# Altium footprint library R_1206.PCBLIB: 1 footprints
Each footprint in its own frame and in the unit in brackets; x right, y up, seen from the top. Pads: shape width x height; smd on the part's side, far side on the other; paste and mask are expansions set on the pad; w line width, h text height; cw(c..) or ccw(c..) is an arc to the next point about the centre after c.
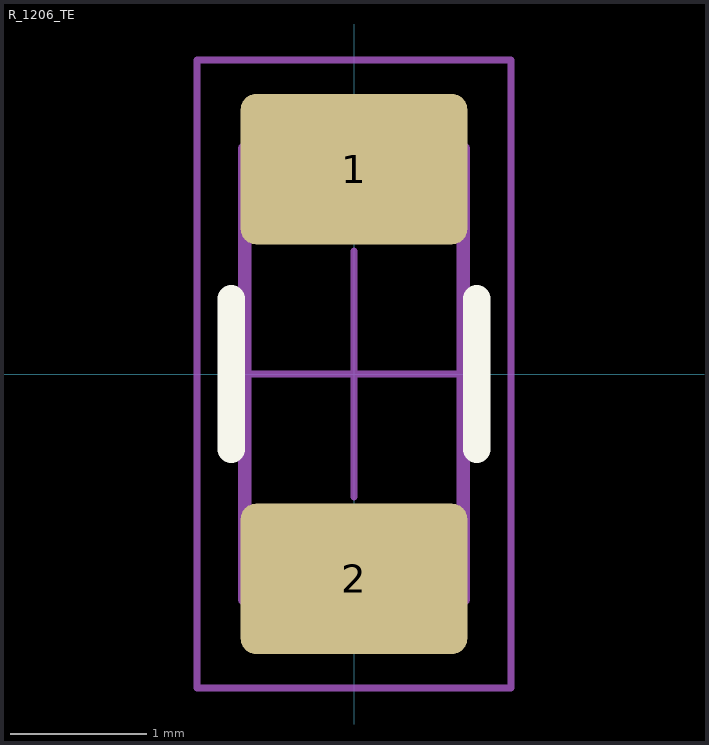
[diagram p0: the footprint, top view; thin cyan lines are the x and y axes]

## R_1206_TE [mm] "Vishay D1206 3.2 x 1.6 (+/- 0.15), 0.2mm - 0.6mm Kontakte"
height 0.65
pads (2):
  rrect20% 1.66x1.1 smd: 1(0,1.5) 2(0,-1.5)
Top Overlay:
  lines w0.2: -0.9,-0.55 -0.9,0.55 ; 0.9,-0.55 0.9,0.55
Top Assembly:
  lines w0.1: -0.8,-1.1 0.8,-1.1 ; -0.8,1.1 0.8,1.1 ; -0.8,-1.65 0.8,-1.65 0.8,1.65 -0.8,1.65 -0.8,-1.65
Top Courtyard:
  lines w0.05: -1.15,-2.3 -1.15,0 -1.15,2.3 1.15,2.3 1.15,-2.3 -1.15,-2.3
Top Designator:
  text ".Designator" at 0.3,1.95 h0.7
Top Component Center:
  lines w0.05: -0.9,0 0,0 ; 0,-0.9 0,0 ; 0,0.9 0,0 ; 0.9,0 0,0
3D body "RESC3216X60L45.STEP": height 0.6, standoff 0, extent -0.8,-1.625 0.8,1.625